# Altium footprint library u-blox TOBY.PcbLib: 1 footprints
Each footprint in its own frame and in the unit in brackets; x right, y up, seen from the top. Pads: shape width x height; smd on the part's side, far side on the other; paste and mask are expansions set on the pad; w line width, h text height; cw(c..) or ccw(c..) is an arc to the next point about the centre after c.
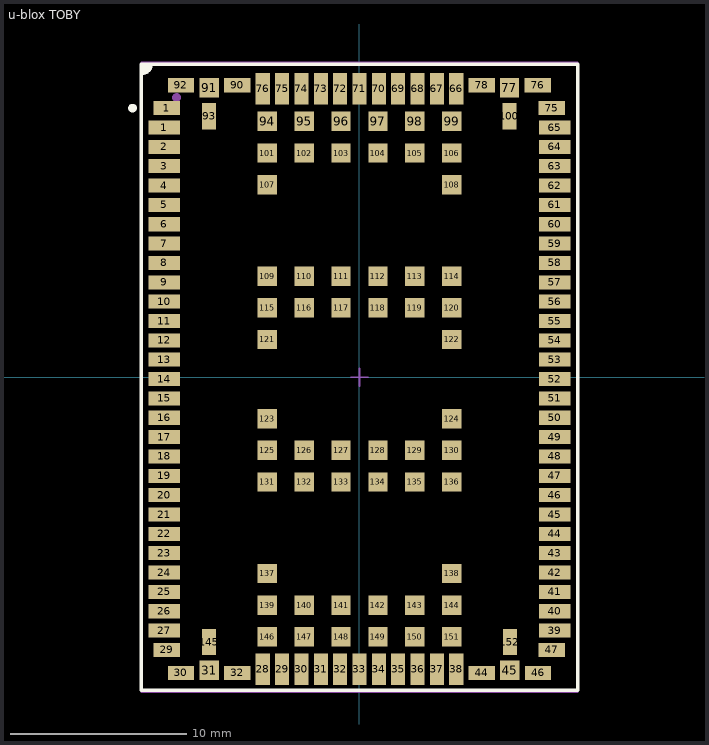
[diagram p0: the footprint, top view; thin cyan lines are the x and y axes]

## u-blox TOBY [mm] "Cellular module"
height 2.6
pads (152):
  rect 1.8x0.8 smd paste-10: 1(-11.1,14.2) 2(-11.1,13.1) 3(-11.1,12) 4(-11.1,10.9) 5(-11.1,9.8) 6(-11.1,8.7) 7(-11.1,7.6) 8(-11.1,6.5) 9(-11.1,5.4) 10(-11.1,4.3) 11(-11.1,3.2) 12(-11.1,2.1) 13(-11.1,1) 14(-11.1,-0.1) 15(-11.1,-1.2) 16(-11.1,-2.3) 17(-11.1,-3.4) 18(-11.1,-4.5) 19(-11.1,-5.6) 20(-11.1,-6.7) 21(-11.1,-7.8) 22(-11.1,-8.9) 23(-11.1,-10) 24(-11.1,-11.1) 25(-11.1,-12.2) 26(-11.1,-13.3) 27(-11.1,-14.4) 39(11.1,-14.4) 40(11.1,-13.3) 41(11.1,-12.2) 42(11.1,-11.1) 43(11.1,-10) 44(11.1,-8.9) 45(11.1,-7.8) 46(11.1,-6.7) 47(11.1,-5.6) 48(11.1,-4.5) 49(11.1,-3.4) 50(11.1,-2.3) 51(11.1,-1.2) 52(11.1,-0.1) 53(11.1,1) 54(11.1,2.1) 55(11.1,3.2) 56(11.1,4.3) 57(11.1,5.4) 58(11.1,6.5) 59(11.1,7.6) 60(11.1,8.7) 61(11.1,9.8) 62(11.1,10.9) 63(11.1,12) 64(11.1,13.1) 65(11.1,14.2)
  rect 1.5x0.8 smd paste+0 mask+0.05: 1(-10.95,15.3) 29(-10.95,-15.5) 47(10.925,-15.5) 75(10.925,15.3)
  rect 0.8x1.8 smd paste-10: 28(-5.5,-16.6) 29(-4.4,-16.6) 30(-3.3,-16.6) 31(-2.2,-16.6) 32(-1.1,-16.6) 33(0,-16.6) 34(1.1,-16.6) 35(2.2,-16.6) 36(3.3,-16.6) 37(4.4,-16.6) 38(5.5,-16.6) 66(5.5,16.4) 67(4.4,16.4) 68(3.3,16.4) 69(2.2,16.4) 70(1.1,16.4) 71(0,16.4) 72(-1.1,16.4) 73(-2.2,16.4) 74(-3.3,16.4) 75(-4.4,16.4) 76(-5.5,16.4)
  rect 1.5x0.8 smd paste+0.025 mask+0.05: 30(-10.15,-16.8) 32(-6.95,-16.8) 44(6.95,-16.8) 46(10.15,-16.8) 76(10.125,16.6) 78(6.95,16.6) 90(-6.95,16.6) 92(-10.15,16.6)
  rect 1.1x1.1 smd paste+0.025 mask+0.05: 31(-8.55,-16.65) 45(8.55,-16.65) 77(8.525,16.45) 91(-8.55,16.45)
  rect 0.8x1.5 smd paste+0.025 mask+0.05: 93(-8.55,14.85) 100(8.525,14.85) 145(-8.55,-15.05) 152(8.55,-15.05)
  rect 1.1x1.1 smd paste-0.025 mask+0.05: 94(-5.25,14.55) 95(-3.15,14.55) 96(-1.05,14.55) 97(1.05,14.55) 98(3.15,14.55) 99(5.25,14.55) 101(-5.25,12.75) 102(-3.15,12.75) 103(-1.05,12.75) 104(1.05,12.75) 105(3.15,12.75) 106(5.25,12.75) 107(-5.25,10.95) 108(5.25,10.95) 109(-5.25,5.75) 110(-3.15,5.75) 111(-1.05,5.75) 112(1.05,5.75) 113(3.15,5.75) 114(5.25,5.75) 115(-5.25,3.95) 116(-3.15,3.95) 117(-1.05,3.95) 118(1.05,3.95) 119(3.15,3.95) 120(5.25,3.95) 121(-5.25,2.15) 122(5.25,2.15) 123(-5.25,-2.35) 124(5.25,-2.35) 125(-5.25,-4.15) 126(-3.15,-4.15) 127(-1.05,-4.15) 128(1.05,-4.15) 129(3.15,-4.15) 130(5.25,-4.15) 131(-5.25,-5.95) 132(-3.15,-5.95) 133(-1.05,-5.95) 134(1.05,-5.95) 135(3.15,-5.95) 136(5.25,-5.95) 137(-5.25,-11.15) 138(5.25,-11.15) 139(-5.25,-12.95) 140(-3.15,-12.95) 141(-1.05,-12.95) 142(1.05,-12.95) 143(3.15,-12.95) 144(5.25,-12.95) 146(-5.25,-14.75) 147(-3.15,-14.75) 148(-1.05,-14.75) 149(1.05,-14.75) 150(3.15,-14.75) 151(5.25,-14.75)
Top Overlay:
  circle w0.25: c-12.9,15.3 r0.125
  region: -12.35,17.775 -11.85,17.775 -12,17.425 -12.35,17.275
  lines w0.2: -12.35,17.275 ccw(c-12.35,17.775) -11.85,17.775 ; -12.4,-17.8 12.4,-17.8 12.4,17.8 -12.4,17.8 -12.4,-17.8
Top Paste:
  drawing of 152 lines, arcs and shapes, not listed
Mechanical 11:
  lines w0.1: -0.5,0 0.5,0 ; 0,-0.5 0,0.5
Mechanical 13:
  circle w0.25: c-10.4,15.9 r0.125
Mechanical 15:
  lines w0.1: -12.4,-17.9 12.4,-17.9 12.4,17.9 -12.4,17.9 -12.4,-17.9
3D body "u-blox TOBY.step": height 2.65, standoff 0.05, extent -12.4,-17.9 12.4,17.9